# Altium footprint library PCB - BATTERY HOLDER - KLS L-KLS5-CR2032-05B.PCBLIB: 1 footprints
Each footprint in its own frame and in the unit in brackets; x right, y up, seen from the top. Pads: shape width x height; smd on the part's side, far side on the other; paste and mask are expansions set on the pad; w line width, h text height; cw(c..) or ccw(c..) is an arc to the next point about the centre after c.
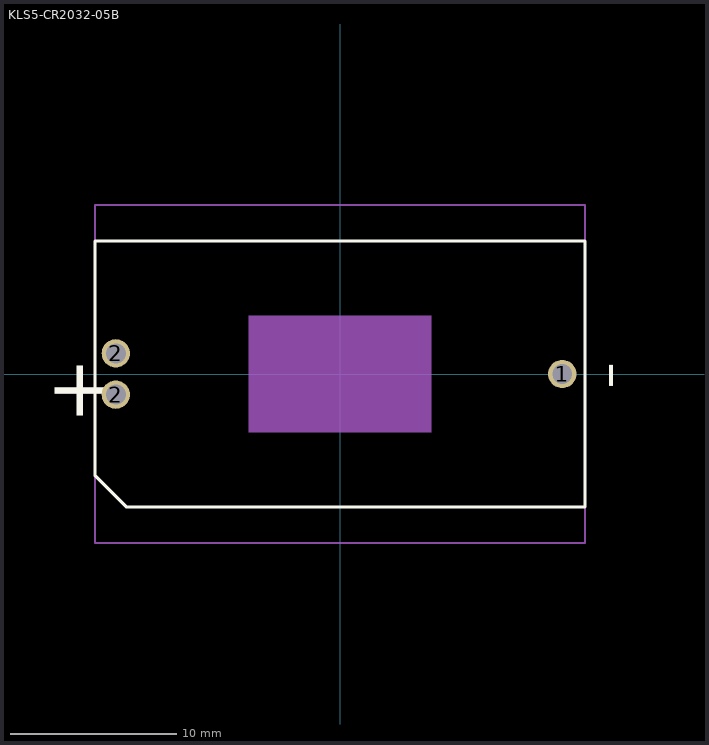
[diagram p0: the footprint, top view; thin cyan lines are the x and y axes]

## KLS5-CR2032-05B [mm]
height 5.5
pads (3):
  round 1.7 hole 1.2 unplated: 1(13.36,0) 2(-13.48,-1.24) 2(-13.48,1.24)
Top Overlay:
  lines w0.2: -14.732,-6.096 -12.828,-8 14.732,-8 14.732,8 -14.732,8 -14.732,-6.096
  text "+" at -18.288,1.016 h6
  text "-" at 13.97,0.762 h6
Top Assembly:
  lines w0.1: -14.732,-10.16 14.732,-10.16 14.732,10.16 -14.732,10.16 -14.732,-10.16
Top Component Center:
  lines w0.2: -1,0 1,0 ; 0,-1 0,1
Top Glue Points:
  region: -5.5,3.5 5.5,3.5 5.5,-3.5 -5.5,-3.5
Top Courtyard:
  lines w0.1: -14.732,-10.16 -14.732,10.16 14.732,10.16 14.732,-10.16 -14.732,-10.16
3D body "KLS5-CR2032-05B.step": height 5.5, standoff -3.34, extent -14.25,-9.997 14.25,9.997